# Altium schematic symbol library VSSAF3N50-M3_6A.SCHLIB: 1 symbol
Pins are listed as number, name and electrical type; pins without a type are passive.

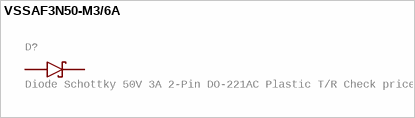
[diagram p0: symbol VSSAF3N50-M3/6A]

## VSSAF3N50-M3/6A
designator D?, comment Diode Schottky 50V 3A 2-Pin DO-221AC Plastic T/R Check prices
GateName_1: G$1; SymbolName_1: VSSAF3N50-M3/6A; MF: Vishay Semiconductor; Description: Diode Schottky 50V 2.7A (DC) Surface Mount DO-221AC (SlimSMA); LibraryName: VSSAF3N50-M3_6A; DeviceSetName: VSSAF3N50-M3/6A; Package: DIOM5226X100N; Price: None; Availability: In Stock; Purchase-URL: https://pricing.snapeda.com/search/part/VSSAF3N50-M3/6A/?ref=eda; MP: VSSAF3N50-M3/6A; Package: DO-221AC-221 Vishay Semiconductor Diodes Division
footprint DIOM5226X100N
pins: A, C K